# Altium schematic symbol library PSUs.SchLib: 6 symbols
Pins are listed as number, name and electrical type; pins without a type are passive.

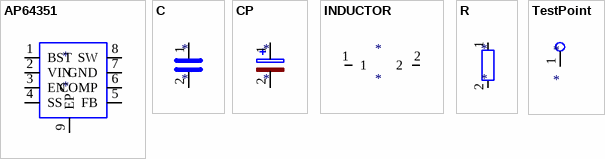
[diagram p0: symbols AP64351 to TestPoint]

## AP64351
designator *
pins: 1 BST, 2 VIN, 3 EN, 4 SS, 5 FB, 6 COMP, 7 GND, 8 SW, 9 EP

## C
designator *
pins: 1, 2

## CP
designator *
pins: 1, 2

## INDUCTOR
designator *
pins: 1, 2

## R
designator *
pins: 1, 2

## TestPoint
designator *
pins: 1